# Altium integrated library BM04B-GHS-TBT_LF__SN__N_.IntLib: 1 symbol
Pins are listed as number, name and electrical type; pins without a type are passive.

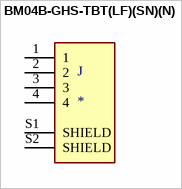
[diagram p0: symbol BM04B-GHS-TBT(LF)(SN)(N)]

## BM04B-GHS-TBT(LF)(SN)(N)
designator J
Connector Header Surface Mount 4 position 0.049 _1.25mm_; MF: JST Sales; MP: BM04B-GHS-TBT_LF__SN__N_; SnapEDA_Link: https://www.snapeda.com/parts/BM04B-GHS-TBT%28LF%29%28SN%29%28N%29/JST%20Sales%20America%20Inc./view-part/841999/?ref=snap; Digi-Key_Part_Number: 455-1580-1-ND; Digi-Key_Purchase_URL: https://www.digikey.com/product-detail/en/jst-sales-america-inc/BM04B-GHS-TBT_LF__SN__N_/455-1580-1-ND/807848?utm_source=snapeda&utm_medium=aggregator&utm_campaign=symbol; Value: *; Package: None
footprint JST_BM04B-GHS-TBT(LF)(SN)(N)
pins: 1, 2, 3, 4, S1 SHIELD, S2 SHIELD